# EAGLE library part TENDA (library tenda)
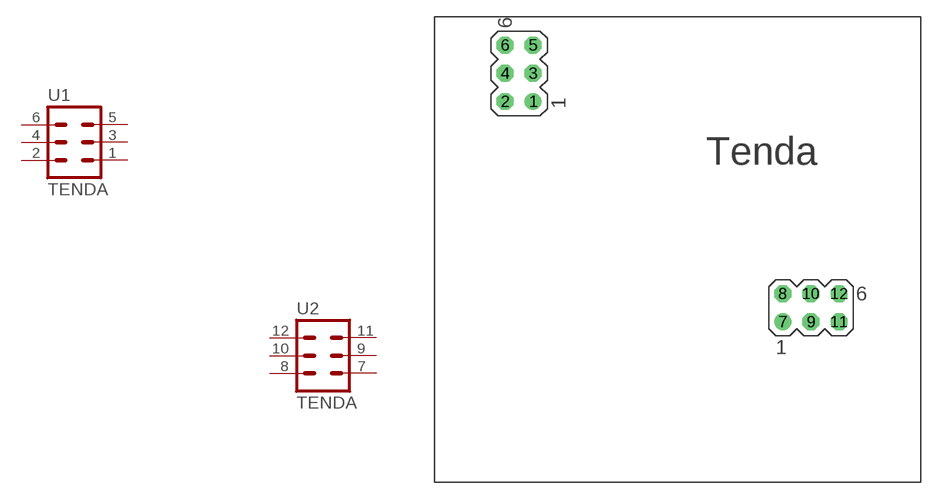
[diagram p1: symbol with the pads of TENDA; footprint TENDA]

Designator prefix -; gates 1=CON-LSTB_MA03-2 2=CON-LSTB_MA03-2

## TENDA  [TENDA]
1  1:1  pas
2  1:2  pas
3  1:3  pas
4  1:4  pas
5  1:5  pas
6  1:6  pas
7  2:1  pas
8  2:2  pas
9  2:3  pas
10  2:4  pas
11  2:5  pas
12  2:6  pas

## Footprint TENDA (pad centres in mm)
drill 1.016: 1 -13.03,13.335; 7 9.477,-6.522
drill 1.016 octagon: 2 -15.57,13.335; 3 -13.03,15.875; 4 -15.57,15.875; 5 -13.03,18.415; 6 -15.57,18.415; 8 9.477,-3.982; 9 12.017,-6.522; 10 12.017,-3.982; 11 14.557,-6.522; 12 14.557,-3.982